# EAGLE library part FSUSB20MUX (library Fairchild_By_element14_Batch_1)
Low-Power 1-Port High-Speed USB (480Mbps) Switch
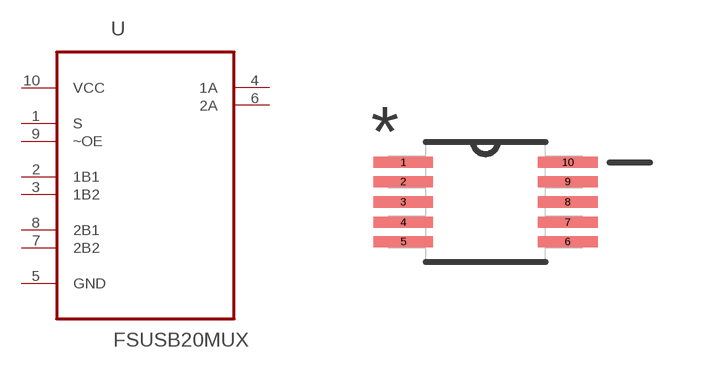
[diagram p197: symbol with the pads of SOP50P490X110-10N; footprint SOP50P490X110-10N]

Designator prefix U

## FSUSB20MUX (MPN: FSUSB20MUX; OC_FARNELL: 1495464; OC_NEWARK: 20M1241; PACKAGE: MSOP-10; SUPPLIER: FAIRCHILD SEMICONDUCTOR)  [SOP50P490X110-10N]
1  S  in
2  1B1
3  1B2
4  1A
5  GND  in
6  2A
7  2B2
8  2B1
9  ~OE  in
10  VCC  pwr

## Footprint SOP50P490X110-10N (pad centres in mm)
smd 1.499 x 0.279: 1 -2.057,0.991; 2 -2.057,0.508; 3 -2.057,0; 4 -2.057,-0.508; 5 -2.057,-0.991; 6 2.057,-0.991; 7 2.057,-0.508; 8 2.057,0; 9 2.057,0.508; 10 2.057,0.991